# Altium integrated library MergenElektronik_Logics_Counters.IntLib: 1 symbol
Pins are listed as number, name and electrical type; pins without a type are passive.

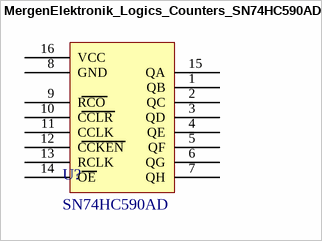
[diagram p0: symbol MergenElektronik_Logics_Counters_SN74HC590AD]

## MergenElektronik_Logics_Counters_SN74HC590AD
designator U?, comment SN74HC590AD
Mergen Elektronik - Logics - Counters - SN74HC590AD; Manufacturer: Texas Instruments; Voltage Rating: 2V up to 6V; Mouser Number: 595-SN74HC590AD; Mounting Type: Surface Mount; Model: Counter; Manufacturer Number: SN74HC590AD; Farnell Number: 3119827; Value: SN74HC590AD; Temperature: -40°C up to 85°C; Package: SOIC-16; Digi-Key Number: 296-8340-5-ND; Operating Supply Voltage: 2V up to 6V
footprint MergenElektronik_Logics_Counters_SOIC-16 (SOIC-16)
pins: 1 QB, 2 QC, 3 QD, 4 QE, 5 QF, 6 QG, 7 QH, 8 GND (power), 9 RCO, 10 CCLR, 11 CCLK, 12 CCKEN, 13 RCLK, 14 OE, 15 QA, 16 VCC (power)